# EAGLE library part 10P-DF50-HIROSE (library CYCFI_Con)
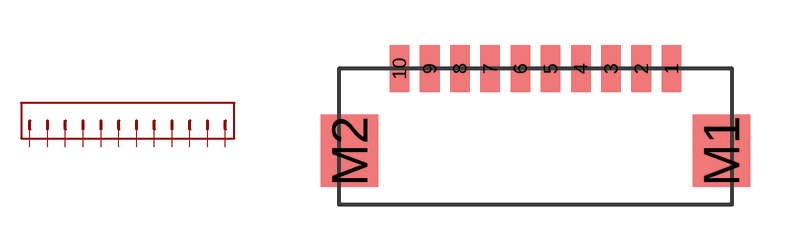
[diagram p7: symbol with the pads of 10P-HIROSE-1MM-DF50; footprint 10P-HIROSE-1MM-DF50]

Designator prefix -

## 10P-DF50-HIROSE  [10P-HIROSE-1MM-DF50]
1  1
2  2
3  3
4  4
5  5
6  6
7  7
8  8
9  9
10  10
M1  M1
M2  M2

## Footprint 10P-HIROSE-1MM-DF50 (pad centres in mm)
smd 0.65 x 1.55: 1 4.5,1.5; 2 3.5,1.5; 3 2.5,1.5; 4 1.5,1.5; 5 0.5,1.5; 6 -0.5,1.5; 7 -1.5,1.5; 8 -2.5,1.5; 9 -3.5,1.5; 10 -4.5,1.5
smd 1.9 x 2.4: M1 6.15,-1.225; M2 -6.15,-1.225